# Altium footprint library PC JACK.PcbLib: 36 footprints (part 3 of 3)
Each footprint in its own frame and in the unit in brackets; x right, y up, seen from the top. Pads: shape width x height; smd on the part's side, far side on the other; paste and mask are expansions set on the pad; w line width, h text height; cw(c..) or ccw(c..) is an arc to the next point about the centre after c.
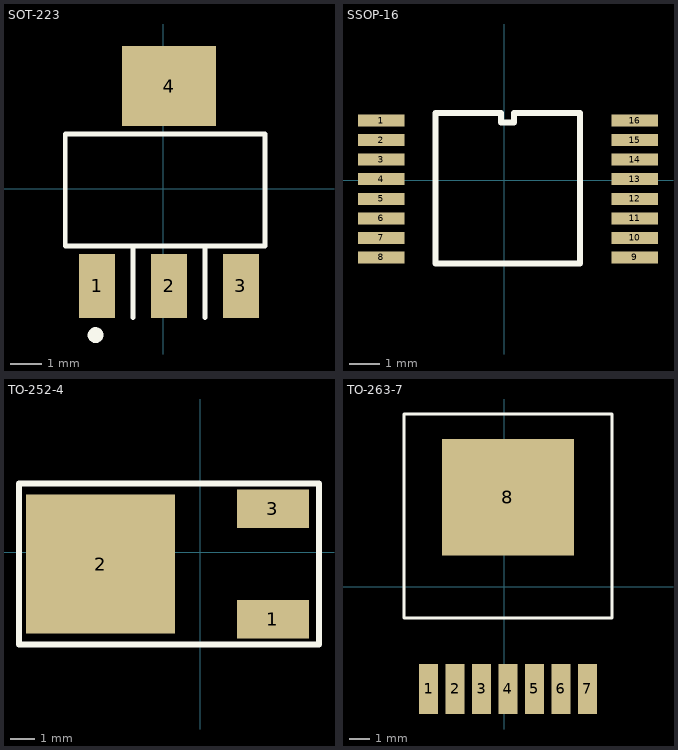
[diagram p2: the footprints below, top view; thin cyan lines are the x and y axes]

## SOT-223 [mil]
height 78.74
pads (4):
  rect 45x80 smd: 1(-82.76,-121.26) 2(7.24,-121.26) 3(97.24,-121.26)
  rect 118x100 smd: 4(7.24,128.74)
Top Overlay:
  circle w9.84: c-84.65,-182.87 r4.92
  lines w6: -37.76,-161.26 -37.76,-71.26 ; 52.24,-161.26 52.24,-71.26 ; -122.76,-71.26 -122.76,68.74 127.24,68.74 127.24,-71.26 -122.76,-71.26

## SSOP-16 [mm]
height 2
pads (16):
  rect 1.55x0.4 smd: 1(-4.09,1.99) 2(-4.09,1.34) 3(-4.09,0.69) 4(-4.09,0.04) 5(-4.09,-0.61) 6(-4.09,-1.26) 7(-4.09,-1.91) 8(-4.09,-2.56) 9(4.33,-2.56) 10(4.33,-1.91) 11(4.33,-1.26) 12(4.33,-0.61) 13(4.33,0.04) 14(4.33,0.69) 15(4.33,1.34) 16(4.33,1.99)
Top Overlay:
  lines w0.2: -2.285,-2.755 -2.285,2.245 -0.114,2.245 -0.114,1.932 0.324,1.932 0.324,2.245 2.505,2.245 2.505,-2.755 -2.285,-2.755

## TO-252-4 [mm]
height 2
pads (3):
  rect 3x1.6 smd: 1(3.028,-2.8) 3(3.028,1.8)
  rect 6.2x5.8 smd: 2(-4.152,-0.5)
Top Overlay:
  lines w0.254: -7.552,-3.85 -7.552,2.85 4.948,2.85 4.948,-3.85 -7.552,-3.85

## TO-263-7 [mm]
height 2
pads (8):
  rect 0.91x2.41 smd: 1(-3.638,-4.91) 2(-2.368,-4.91) 3(-1.098,-4.91) 4(0.172,-4.91) 5(1.442,-4.91) 6(2.712,-4.91) 7(3.982,-4.91)
  rect 6.35x5.59 smd: 8(0.172,4.29)
Top Overlay:
  lines w0.152: -4.828,-1.51 -4.828,8.29 5.172,8.29 5.172,-1.51 -4.828,-1.51